# Altium schematic symbol library D6.3mm_L5.4mm_CAP_SMD.SchLib: 1 symbol
Pins are listed as number, name and electrical type; pins without a type are passive.

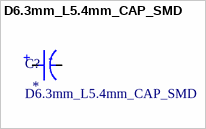
[diagram p0: symbol D6.3mm_L5.4mm_CAP_SMD]

## D6.3mm_L5.4mm_CAP_SMD
designator C?
D6.3 x L5.4mm _Aluminum_Electrolytic_Capacitor_SMD; ComponentLink1Description: 3D model; ComponentLink1URL: CAPAE660X550N-(D); LCSC: *
footprint D6.3mm_L5.4mm_CAP_SMD
pins: 1 +, 2 -